# Altium schematic symbol library usbinterface-schlib.SchLib: 5 symbols
Pins are listed as number, name and electrical type; pins without a type are passive.

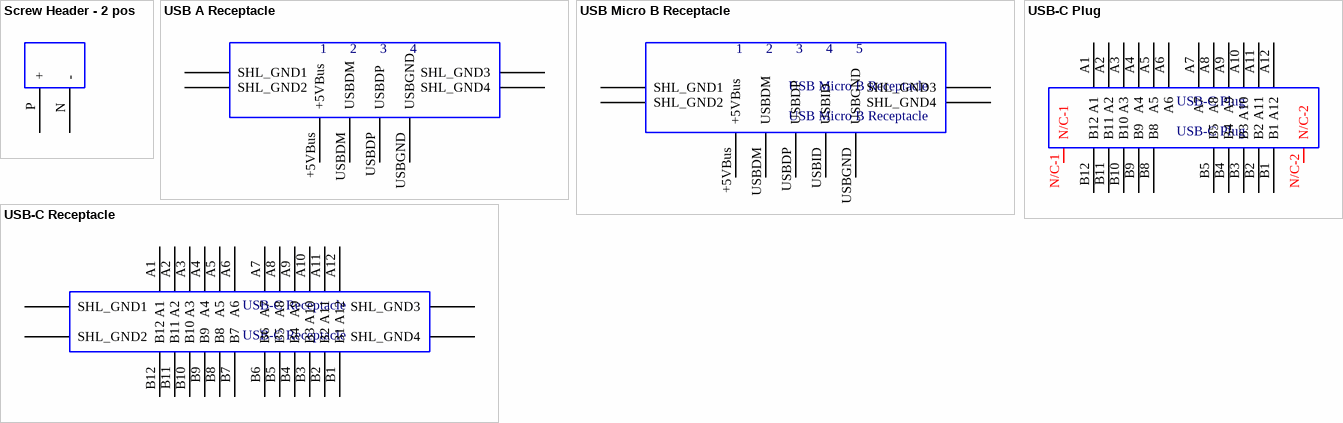
[diagram p0: symbols Screw Header - 2 pos to USB-C Receptacle]

## Screw Header - 2 pos
designator Screw Header - 2 pos  (value not drawn)
On Shore Technology - OSTVN02A150; Supplier 1: Digi-Key; Supplier Part Number 1: ED10561-ND
footprint SCREW HEADER - 2POS (On Shore Technology - OSTVN02A150)
pins: N -, P +

## USB A Receptacle
designator USB A Receptacle  (value not drawn)
TE Connectivity AMP Connectors - 1932638-3; Supplier 1: Digi-Key; Supplier Part Number 1: A117902CT-ND
footprint USB A RECEPTACLE (TE CONNECTIVITY - 1932638-3)
pins: +5VBus, SHL_GND1, SHL_GND2, SHL_GND3, SHL_GND4, USBDM, USBDP, USBGND
text: 1; 2; 3; 4

## USB Micro B Receptacle
designator USB Micro B Receptacle
Wurth Electronics Inc - 629105150521; Supplier 1: Digi-Key; Supplier Part Number 1: 732-5960-1-ND
footprint USB Micro B Receptacle (Wurth Electronics Inc - 629105150521)
pins: +5VBus, SHL_GND1, SHL_GND2, SHL_GND3, SHL_GND4, USBDM, USBDP, USBGND, USBID
text: 1; 2; 3; 4; 5

## USB-C Plug
designator USB-C Plug
Amphenol  - 12401562E4#2A; Supplier 1: Digi-Key; Supplier Part Number 1: 12401562E4#2ACT-ND
footprint USB C PLUG (Amphenol 12401562E4#2A)
pins: A1, A2, A3, A4, A5, A6, A7, A8, A9, A10, A11, A12, B1, B2, B3, B4, B5, B8, B9, B10, B11, B12, N/C-1, N/C-2

## USB-C Receptacle
designator USB-C Receptacle
JAE DX07S024JJ2R1300; Supplier 1: Digi-Key; Supplier 2: Mouser; Supplier Part Number 1: 670-2794-6-ND; Supplier Part Number 2: 656-DX07S024JJ2R1300
footprint JAE USB RECEPTACLE (JAE DX07S024JJ2R1300)
pins: A1, A2, A3, A4, A5, A6, A7, A8, A9, A10, A11, A12, B1, B2, B3, B4, B5, B6, B7, B8, B9, B10, B11, B12, SHL_GND1, SHL_GND2, SHL_GND3, SHL_GND4